# EAGLE library part RTC (library RTC)
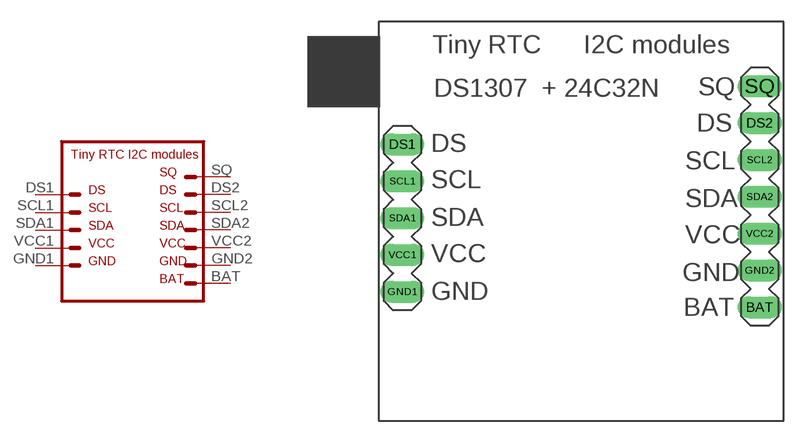
[diagram p0: symbol with the pads of RTC; footprint RTC]

Designator prefix -

## RTC  [RTC]
BAT  BAT  pas
DS1  DS1  pas
DS2  DS2  pas
GND1  GND1  pas
GND2  GND2  pas
SCL1  SCL1  pas
SCL2  SCL2  pas
SDA1  SDA1  pas
SDA2  SDA2  pas
SQ  SQ  pas
VCC1  VCC1  pas
VCC2  VCC2  pas

## Footprint RTC (pad centres in mm)
drill 1.016 long: BAT 25.75,7.82; DS1 1.13,19.05; DS2 25.75,20.52; GND1 1.13,8.89; GND2 25.75,10.36; SCL1 1.13,16.51; SCL2 25.75,17.98; SDA1 1.13,13.97; SDA2 25.75,15.44; SQ 25.75,23.06; VCC1 1.13,11.43; VCC2 25.75,12.9